# EAGLE library part FIN1102 (library fairchild-semiconductor)
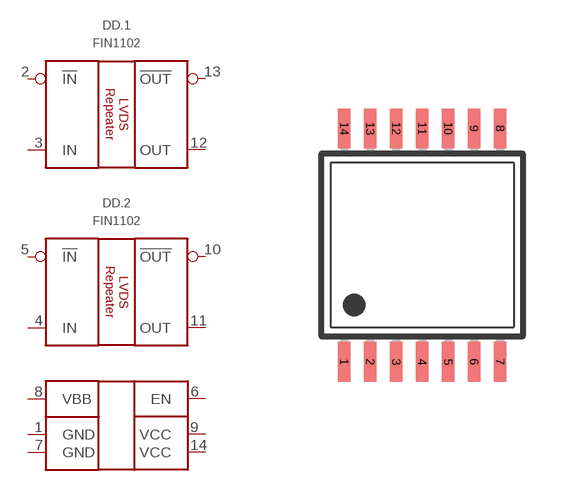
[diagram p0: symbol with the pads of TSSOP14; footprint TSSOP14]

Designator prefix DD; gates .1=LVDS_REPEATER .2=LVDS_REPEATER .3=REPEATER_POWER1102

## FIN1102MTC  [TSSOP14]
1  .3:GND  pwr
2  .1:!IN  in
3  .1:IN  in
4  .2:IN  in
5  .2:!IN  in
6  .3:EN  in
7  .3:GND  pwr
8  .3:VBB  out
9  .3:VCC  pwr
10  .2:!OUT  out
11  .2:OUT  out
12  .1:OUT  out
13  .1:!OUT  out
14  .3:VCC  pwr

## Footprint TSSOP14 (pad centres in mm)
Thin Shrink Small Outline Plastic 14 MAX3223-MAX3243.pdf
smd 0.305 x 0.991: 1 -1.95,-2.918; 2 -1.3,-2.918; 3 -0.65,-2.918; 4 0,-2.918; 5 0.65,-2.918; 6 1.3,-2.918; 7 1.95,-2.918; 8 1.95,2.918; 9 1.3,2.918; 10 0.65,2.918; 11 0,2.918; 12 -0.65,2.918; 13 -1.3,2.918; 14 -1.95,2.918